# Altium schematic symbol library Schlib1.SchLib: 3 symbols
Pins are listed as number, name and electrical type; pins without a type are passive.

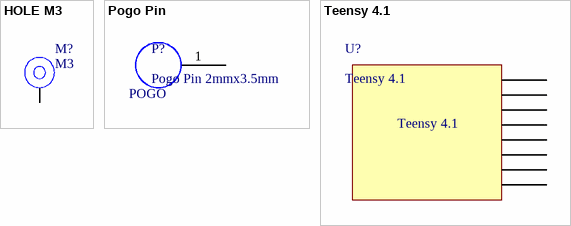
[diagram p0: symbols HOLE M3 to Teensy 4.1]

## HOLE M3
designator M?, comment M3  (net tie, no BOM)
M3 Hole; Part Type: Mechnical
footprint MARK
pins: 1

## Pogo Pin
designator P?, comment Pogo Pin 2mmx3.5mm
footprint Pogo_2x3.5
pins: 1
text: POGO

## Teensy 4.1
designator U?  (mechanical)
pins: ?1, ?2, ?3, ?4, ?5, ?6, ?7, ?8